# EAGLE library part WE-DSL_750051433 (library PowerMagnetics)
SMD-SHDSL Transformer WE-DSL - IEC60950 compatible -- for SHDSL applications -- Matched to various manufacturers SHDSL ICs <http://katalog.we-online.de/media/images/ctm/MIDDSL_pf2.jpg> Details see: http://katalog.we-online.de/en/ctm/MID-DSL/750051433? Updated by Dan Xu 2014-07-07 2014 (C) Würth Elektronik
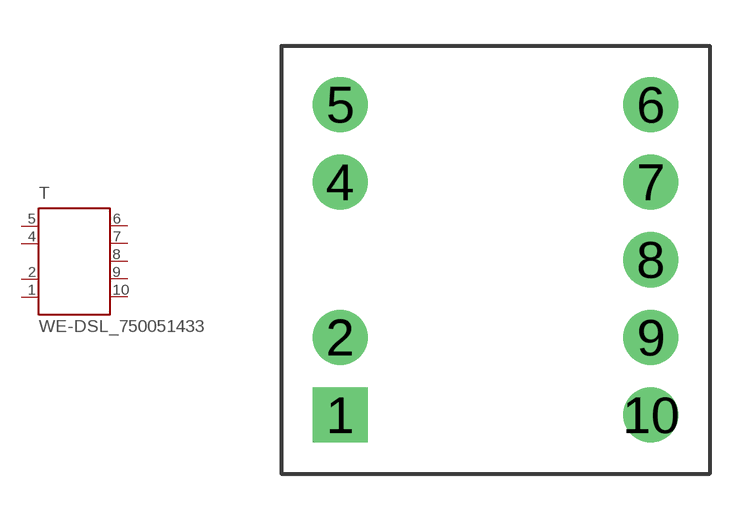
[diagram p24: symbol with the pads of WE_EP13_THT_9PIN; footprint WE_EP13_THT_9PIN]

Designator prefix T

## WE-DSL_750051433  [WE_EP13_THT_9PIN]
1  1  pas
2  2  pas
4  4  pas
5  5  pas
6  6  pas
7  7  pas
8  8  pas
9  9  pas
10  10  pas

## Footprint WE_EP13_THT_9PIN (pad centres in mm)
SMD-xDSL Transformer WE-DSL
drill 1.2 square: 1 -5.08,-5.08
drill 1.2: 2 -5.08,-2.54; 4 -5.08,2.54; 5 -5.08,5.08; 6 5.08,5.08; 7 5.08,2.54; 8 5.08,0; 9 5.08,-2.54; 10 5.08,-5.08